# Altium integrated library Infineon_Power_IGBT.IntLib: 226 symbols (part 4 of 8)
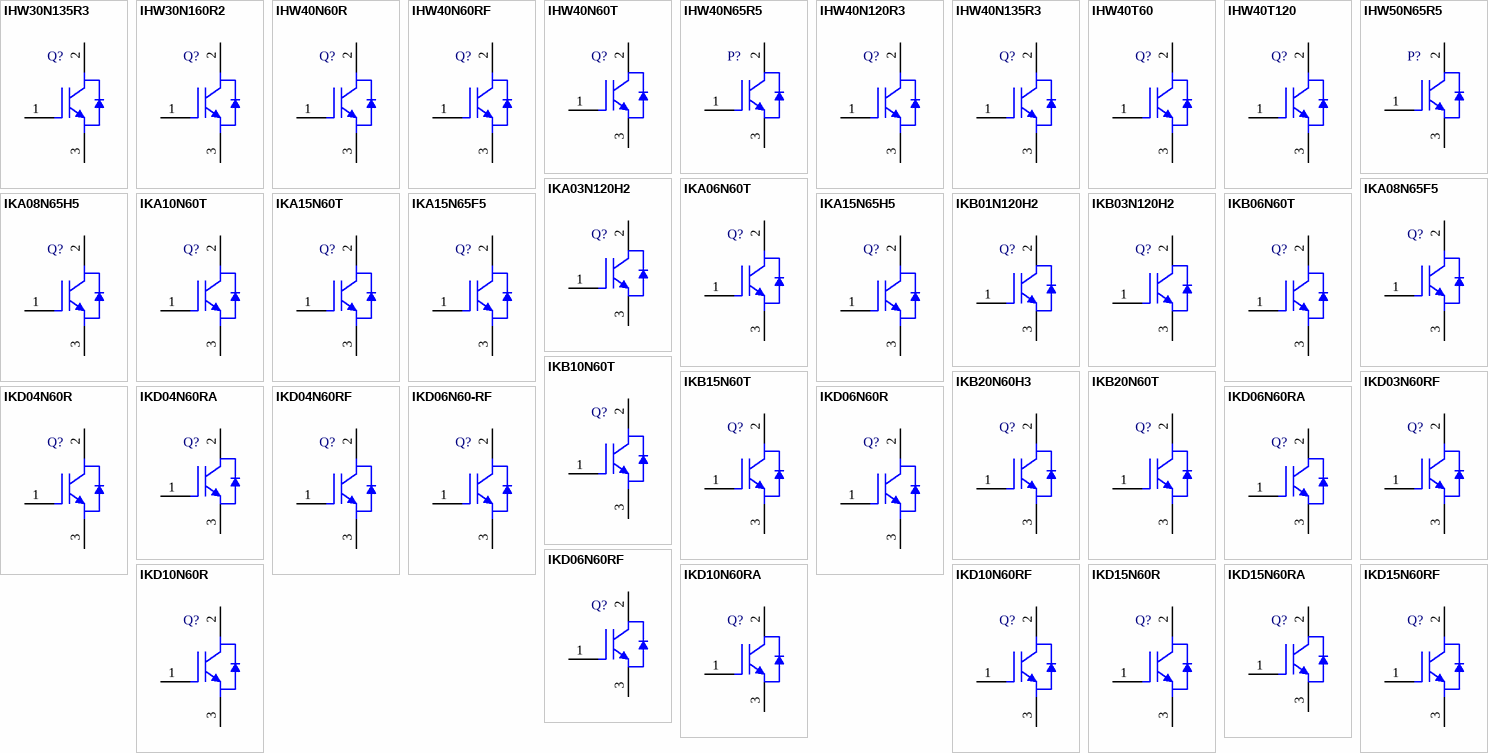
[diagram p8: symbols IHW30N135R3 to IKD15N60RF]

## IKB06N60T
designator Q?
600 V IGBT in TrenchStop and Fieldstop Technology with Soft, Fast Recovery Anti-Parallel EmCon 3 Diode, 12 A IC, -40 to 175 degC, PG-TO263-3-2, Reel, Green; Manufacturer: Infineon; PartNumber: IKB06N60T; Eoff (typ): 0.11 mJ; Eon (typ): 0.09 mJ; Green: TRUE; Group: IGBT with Anti-Parallel Diode; IC(max) @ 100degrees: 6 A; IC(max) @ 25degrees: 12 A; ICpuls (max): 18 A; Irrm (typ): 5.3 A; Ptot (max): 88 W; QGate (typ): 42 nC; Qrr (typ): 190 nC; Switching Frequency: TRENCHSTOP 2-20kHz; td(off) (typ): 130 ns; td(on) (typ): 9 ns; tf (typ): 58 ns; tr (typ): 6 ns; VCE (max): 600 V; VCE(sat) (typ): 1.5 V; VF (typ): 1.6 V; DatasheetVersion: Rev. 2.3; PackageVersion: Jul-09; PackageReference: PG-TO263-3-2; PackageDescription: 3-Pin Plastic (Green) Transistor Single Outline Package, 10 x 9.25 mm Body, 2.54 mm Pitch; Supplier 1: Mouser; Supplier Part Number 1: 726-IKB06N60T; Supplier 2: Newark; Supplier Part Number 2: 13T9437; Supplier 3: Digi-Key; Supplier Part Number 3: IKB06N60TTR-ND; Supplier 4: Digi-Key; Supplier Part Number 4: IKB06N60TCT-ND; Supplier 5: Digi-Key; Supplier Part Number 5: IKB06N60TDKR-ND; Halogen-free: TRUE; IF (max): 12 A; IFpuls (max): 18 A; Packing: Reel; Mounting Technology: Surface Mount; ComponentLink1Description: Manufacturer URL; ComponentLink1URL: http://www.infineon.com/; ComponentLink2Description: Datasheet; ComponentLink2URL: http://www.infineon.com/dgdl/IKB06N60T+Rev2_3G.pdf?folderId=db3a304412b407950112b408e8c90004&fileId=db3a304412b407950112b4286b603df2; ComponentLink3Description: Package Specification; ComponentLink3URL: http://www.infineon.com/dgdl/BTS141TC_DS_10.pdf?folderId=db3a3043163797a6011667aa084c0e01&fileId=db3a3043242ebc9e01242f43f58b003e&location=en.Products.Automotive_ICs.Smart_High-_and_Low-Side_Switches.HITFET___TEMPFET__-_Smart_Low-Side_Switches.DATASHEET.BTS141TC_DS_10.pdf
footprint INF-PG-TO263-3-2_N (DPAK, 3-Leads, Body 10x9.25mm, Pitch 2.54mm, IPC Medium Density)
footprint INF-PG-TO263-3-2_L (DPAK, 3-Leads, Body 10x9.25mm, Pitch 2.54mm, IPC High Density)
footprint INF-PG-TO263-3-2_M (DPAK, 3-Leads, Body 10x9.25mm, Pitch 2.54mm, IPC Low Density)
pins: 1 G, 2 C, 3 E

## IKB10N60T
designator Q?
600 V IGBT in TrenchStop and Fieldstop Technology with Soft, Fast Recovery Anti-Parallel EmCon 3 Diode, 20 A IC, -40 to 175 degC, PG-TO263-3-2, Reel, Green; Manufacturer: Infineon; PartNumber: IKB10N60T; Eoff (typ): 0.27 mJ; Eon (typ): 0.16 mJ; Green: TRUE; Group: IGBT with Anti-Parallel Diode; IC(max) @ 100degrees: 10 A; IC(max) @ 25degrees: 20 A; ICpuls (max): 30 A; Ptot (max): 110 W; QGate (typ): 62 nC; Qrr (typ): 0.38 uC; Switching Frequency: TRENCHSTOP 2-20kHz; td(off) (typ): 215 ns; td(on) (typ): 12 ns; tf (typ): 38 ns; tr (typ): 8 ns; VCE (max): 600 V; VCE(sat) (typ): 1.5 V; VF (typ): 1.6 V; DatasheetVersion: Rev. 2.3; PackageVersion: Jul-09; PackageReference: PG-TO263-3-2; PackageDescription: 3-Pin Plastic (Green) Transistor Single Outline Package, 10 x 9.25 mm Body, 2.54 mm Pitch; Supplier 1: Mouser; Supplier Part Number 1: 726-IKB10N60T; Supplier 2: Newark; Supplier Part Number 2: 13T9438; Supplier 3: Farnell; Supplier Part Number 3: 1832362; Supplier 4: Digi-Key; Supplier Part Number 4: IKB10N60T-ND; Halogen-free: TRUE; IF (max): 20 A; IFpuls (max): 30 A; Irrm (typ): 10 A; Packing: Reel; Mounting Technology: Surface Mount; ComponentLink1Description: Manufacturer URL; ComponentLink1URL: http://www.infineon.com/; ComponentLink2Description: Datasheet; ComponentLink2URL: http://www.infineon.com/dgdl/IKB10N60T+Rev2_3G.pdf?folderId=db3a304412b407950112b408e8c90004&fileId=db3a304412b407950112b428742d3dfe; ComponentLink3Description: Package Specification; ComponentLink3URL: http://www.infineon.com/dgdl/BTS141TC_DS_10.pdf?folderId=db3a3043163797a6011667aa084c0e01&fileId=db3a3043242ebc9e01242f43f58b003e&location=en.Products.Automotive_ICs.Smart_High-_and_Low-Side_Switches.HITFET___TEMPFET__-_Smart_Low-Side_Switches.DATASHEET.BTS141TC_DS_10.pdf
footprint INF-PG-TO263-3-2_N (DPAK, 3-Leads, Body 10x9.25mm, Pitch 2.54mm, IPC Medium Density)
footprint INF-PG-TO263-3-2_L (DPAK, 3-Leads, Body 10x9.25mm, Pitch 2.54mm, IPC High Density)
footprint INF-PG-TO263-3-2_M (DPAK, 3-Leads, Body 10x9.25mm, Pitch 2.54mm, IPC Low Density)
pins: 1 G, 2 C, 3 E

## IKB15N60T
designator Q?
600 V IGBT in TrenchStop and Fieldstop Technology with Soft, Fast Recovery Anti-Parallel EmCon 3 Diode, 30 A IC, -40 to 175 degC, PG-TO263-3-2, Reel, Green; Manufacturer: Infineon; PartNumber: IKB15N60T; Eoff (typ): 0.35 mJ; Eon (typ): 0.22 mJ; Green: TRUE; Group: IGBT with Anti-Parallel Diode; IC(max) @ 100degrees: 15 A; IC(max) @ 25degrees: 30 A; ICpuls (max): 45 A; Irrm (typ): 10.4 A; Ptot (max): 130 W; QGate (typ): 87 nC; Qrr (typ): 0.24 uC; Switching Frequency: TRENCHSTOP 2-20kHz; td(off) (typ): 188 ns; td(on) (typ): 17 ns; tf (typ): 50 ns; tr (typ): 11 ns; VCE (max): 600 V; VCE(sat) (typ): 1.5 V; VF (typ): 1.65 V; DatasheetVersion: Rev. 2.5; PackageVersion: Jul-09; PackageReference: PG-TO263-3-2; PackageDescription: 3-Pin Plastic (Green) Transistor Single Outline Package, 10 x 9.25 mm Body, 2.54 mm Pitch; Supplier 1: Mouser; Supplier Part Number 1: 726-IKB15N60T; Supplier 2: Digi-Key; Supplier Part Number 2: IKB15N60T-ND; Halogen-free: TRUE; IF (max): 30 A; IFpuls (max): 45 A; Packing: Reel; Mounting Technology: Surface Mount; ComponentLink1Description: Manufacturer URL; ComponentLink1URL: http://www.infineon.com/; ComponentLink2Description: Datasheet; ComponentLink2URL: http://www.infineon.com/dgdl/IKB15N60T+Rev2_5G.pdf?folderId=db3a304412b407950112b408e8c90004&fileId=db3a304412b407950112b4287d223e0a; ComponentLink3Description: Package Specification; ComponentLink3URL: http://www.infineon.com/dgdl/BTS141TC_DS_10.pdf?folderId=db3a3043163797a6011667aa084c0e01&fileId=db3a3043242ebc9e01242f43f58b003e&location=en.Products.Automotive_ICs.Smart_High-_and_Low-Side_Switches.HITFET___TEMPFET__-_Smart_Low-Side_Switches.DATASHEET.BTS141TC_DS_10.pdf
footprint INF-PG-TO263-3-2_N (DPAK, 3-Leads, Body 10x9.25mm, Pitch 2.54mm, IPC Medium Density)
footprint INF-PG-TO263-3-2_L (DPAK, 3-Leads, Body 10x9.25mm, Pitch 2.54mm, IPC High Density)
footprint INF-PG-TO263-3-2_M (DPAK, 3-Leads, Body 10x9.25mm, Pitch 2.54mm, IPC Low Density)
pins: 1 G, 2 C, 3 E

## IKB20N60H3
designator Q?
600 V High Speed Switching Series Third Generation, 40 A IC, -40 to 175 degC, PG-TO263-3-2, Reel, Green; Manufacturer: Infineon; PartNumber: IKB20N60H3; Eoff (typ): 0.24 mJ; Eon (typ): 0.45 mJ; Green: TRUE; IC(max) @ 100degrees: 20 A; IC(max) @ 25degrees: 40 A; ICpuls (max): 80 A; Irrm (typ): 11 A; QGate (typ): 120 nC; Qrr (typ): 0.39 uC; Switching Frequency: HighSpeed3 20-100kHz; td(off) (typ): 194 ns; td(on) (typ): 16 ns; tf (typ): 11 ns; tr (typ): 20 ns; VCE (max): 600 V; VCE(sat) (typ): 1.95 V; VF (typ): 1.65 V; DatasheetVersion: Rev. 1.1; PackageVersion: Jul-09; PackageReference: PG-TO263-3-2; PackageDescription: 3-Pin Plastic (Green) Transistor Single Outline Package, 10 x 9.25 mm Body, 2.54 mm Pitch; Supplier 1: Mouser; Supplier Part Number 1: 726-IKB20N60H3; Supplier 2: Digi-Key; Supplier Part Number 2: IKB20N60H3-ND; Halogen-free: TRUE; IF (max): 20 A; IFpuls (max): 80 A; Packing: Reel; Mounting Technology: Surface Mount; ComponentLink1Description: Manufacturer URL; ComponentLink1URL: http://www.infineon.com/; ComponentLink2Description: Datasheet; ComponentLink2URL: http://www.infineon.com/dgdl/IKB20N60H3_Rev1_1G.pdf?folderId=db3a3043156fd5730115f56849b61941&fileId=db3a30432a40a650012a476e38862bd0; ComponentLink3Description: Package Specification; ComponentLink3URL: http://www.infineon.com/dgdl/BTS141TC_DS_10.pdf?folderId=db3a3043163797a6011667aa084c0e01&fileId=db3a3043242ebc9e01242f43f58b003e&location=en.Products.Automotive_ICs.Smart_High-_and_Low-Side_Switches.HITFET___TEMPFET__-_Smart_Low-Side_Switches.DATASHEET.BTS141TC_DS_10.pdf
footprint INF-PG-TO263-3-2_N (DPAK, 3-Leads, Body 10x9.25mm, Pitch 2.54mm, IPC Medium Density)
footprint INF-PG-TO263-3-2_L (DPAK, 3-Leads, Body 10x9.25mm, Pitch 2.54mm, IPC High Density)
footprint INF-PG-TO263-3-2_M (DPAK, 3-Leads, Body 10x9.25mm, Pitch 2.54mm, IPC Low Density)
pins: 1 G, 2 C, 3 E

## IKB20N60T
designator Q?
600 V IGBT in TrenchStop and Fieldstop Technology with Soft, Fast Recovery Anti-Parallel EmCon 3 Diode, 40 A IC, -40 to 175 degC, PG-TO263-3-2, Reel, Green; Manufacturer: Infineon; PartNumber: IKB20N60T; Eoff (typ): 0.46 mJ; Eon (typ): 0.31 mJ; Green: TRUE; Group: IGBT with Anti-Parallel Diode; IC(max) @ 100degrees: 20 A; IC(max) @ 25degrees: 40 A; ICpuls (max): 60 A; Irrm (typ): 13.3 A; Ptot (max): 166 W; QGate (typ): 120 nC; Qrr (typ): 0.31 uC; Switching Frequency: TRENCHSTOP 2-20kHz; td(off) (typ): 199 ns; td(on) (typ): 18 ns; tf (typ): 42 ns; tr (typ): 14 ns; VCE (max): 600 V; VCE(sat) (typ): 1.5 V; VF (typ): 1.65 V; DatasheetVersion: Rev. 2.4; PackageVersion: Jul-09; PackageReference: PG-TO263-3-2; PackageDescription: 3-Pin Plastic (Green) Transistor Single Outline Package, 10 x 9.25 mm Body, 2.54 mm Pitch; Supplier 1: Mouser; Supplier Part Number 1: 726-IKB20N60T; Supplier 2: Farnell; Supplier Part Number 2: 1832364; Supplier 3: Digi-Key; Supplier Part Number 3: IKB20N60T-ND; Halogen-free: TRUE; IF (max): 40 A; IFpuls (max): 60 A; Packing: Reel; Mounting Technology: Surface Mount; ComponentLink1Description: Manufacturer URL; ComponentLink1URL: http://www.infineon.com/; ComponentLink2Description: Datasheet; ComponentLink2URL: http://www.infineon.com/dgdl/IKB20N60T+Rev2_4G.pdf?folderId=db3a304412b407950112b408e8c90004&fileId=db3a304412b407950112b42883273e12; ComponentLink3Description: Package Specification; ComponentLink3URL: http://www.infineon.com/dgdl/BTS141TC_DS_10.pdf?folderId=db3a3043163797a6011667aa084c0e01&fileId=db3a3043242ebc9e01242f43f58b003e&location=en.Products.Automotive_ICs.Smart_High-_and_Low-Side_Switches.HITFET___TEMPFET__-_Smart_Low-Side_Switches.DATASHEET.BTS141TC_DS_10.pdf
footprint INF-PG-TO263-3-2_N (DPAK, 3-Leads, Body 10x9.25mm, Pitch 2.54mm, IPC Medium Density)
footprint INF-PG-TO263-3-2_L (DPAK, 3-Leads, Body 10x9.25mm, Pitch 2.54mm, IPC High Density)
footprint INF-PG-TO263-3-2_M (DPAK, 3-Leads, Body 10x9.25mm, Pitch 2.54mm, IPC Low Density)
pins: 1 G, 2 C, 3 E

## IKD03N60RF
designator Q?
600 V TrenchStop RC-Series for Hard Switching Applications up to 30 KHz, 5 A IC, -40 to 175 degC, PG-TO252-3-21, Reel, Green; Manufacturer: Infineon; PartNumber: IKD03N60RF; Eoff(typ): 0.04 mJ; Eon(typ): 0.05 mJ; Green: TRUE; IC(max)@ 100degrees: 2.5 A; IC(max)@ 25degrees: 5 A; ICpuls(max): 7.5 A; Irrm(typ): 3.8 A; Ptot(max): 53.6 W; QGate (typ): 17.1 nC; Qrr(typ): 0.06 uC; Switching Frequency: RC Drives Fast Series 4 - 30 kHz; td(off) (typ): 128 ns; td(on)(typ): 10 ns; tf(typ): 93 ns; tr(typ): 8 ns; VCE(max): 600 V; VCE(sat)(typ): 2.2 V; VF (typ): 2.1 V; DatasheetVersion: Rev. 2.2; PackageReference: PG-TO252-3-21; PackageDescription: 3-Pin Plastic (Green) Transistor Single Outline Package, Body 6.1 x 6.6 mm, Pitch 2.29 mm; Supplier 1: Mouser; Supplier Part Number 1: 726-IKD03N60RF; Supplier 2: Digi-Key; Supplier Part Number 2: IKD03N60RFTR-ND; Supplier 3: Digi-Key; Supplier Part Number 3: IKD03N60RFCT-ND; Supplier 4: Digi-Key; Supplier Part Number 4: IKD03N60RFDKR-ND; Halogen-free: TRUE; IF (max): 5 A; IFpuls(max): 7.5 A; Packing: Reel; Product Type: IKD03N60RF; Mounting Technology: Surface Mount; ComponentLink1Description: Manufacturer URL; ComponentLink1URL: http://www.infineon.com/; ComponentLink2Description: Datasheet; ComponentLink2URL: http://www.infineon.com/dgdl/IKD03N60RF+Rev+2.2.pdf?folderId=db3a3043156fd5730115f56849b61941&fileId=db3a30433c5c92fb013c5d3978350068; ComponentLink3Description: Package Specification; ComponentLink3URL: http://www.infineon.com/cms/packages/SMD_-_Surface_Mounted_Devices/P-PG-TO252/P-PG-TO252-03-021.html?__locale=en
footprint INF-PG-TO252-3-21_V (DPAK, 3-Leads, Body 6.6x6.1mm, Pitch 2.29mm, Recommended)
pins: 1 G, 2 C, 3 E

## IKD04N60R
designator Q?
600 V TrenchStop RC-Series for Hard Switching Applications, 8 A IC, -40 to 175 degC, PG-TO252-3-21, Reel, Green; Manufacturer: Infineon; PartNumber: IKD04N60R; Eoff(typ): 0.15 mJ; Eon(typ): 0.09 mJ; Green: TRUE; IC(max)@ 100degrees: 4 A; IC(max)@ 25degrees: 8 A; ICpuls(max): 12 A; Irrm(typ): 7.6 A; Ptot(max): 75 W; QGate (typ): 27 nC; Qrr(typ): 0.22 uC; Switching Frequency: RC Drives Series 2-20 KHz; td(off) (typ): 146 ns; td(on)(typ): 14 ns; tf(typ): 171 ns; tr(typ): 8 ns; VCE(max): 600 V; VCE(sat)(typ): 1.65 V; VF (typ): 1.7 V; DatasheetVersion: Rev. 2.2; PackageReference: PG-TO252-3-21; PackageDescription: 3-Pin Plastic (Green) Transistor Single Outline Package, Body 6.1 x 6.6 mm, Pitch 2.29 mm; Supplier 1: Mouser; Supplier Part Number 1: 726-IKD04N60R; Supplier 2: Newark; Supplier Part Number 2: 13T9441; Supplier 3: Farnell; Supplier Part Number 3: 1832339; Supplier 4: Digi-Key; Supplier Part Number 4: IKD04N60RINTR-ND; Supplier 5: Digi-Key; Supplier Part Number 5: IKD04N60RINCT-ND; Supplier 6: Digi-Key; Supplier Part Number 6: IKD04N60RINDKR-ND; Halogen-free: TRUE; IF (max): 8 A; IFpuls(max): 12 A; Packing: Reel; Product Type: IKD04N60R; Mounting Technology: Surface Mount; ComponentLink1Description: Manufacturer URL; ComponentLink1URL: http://www.infineon.com/; ComponentLink2Description: Datasheet; ComponentLink2URL: http://www.infineon.com/dgdl/IKD04N60R_2_2.pdf?folderId=db3a3043156fd5730115f56849b61941&fileId=db3a30433c5c92fb013c5d927b3e01a0&location=en.Products.IGBTs.IGBT_with_Anti-Parallel_Diode.RC-Drive_and_RC-Drive_Fast.DATASHEET.IKD04N60R_2_2.pdf; ComponentLink3Description: Package Specification; ComponentLink3URL: http://www.infineon.com/cms/packages/SMD_-_Surface_Mounted_Devices/P-PG-TO252/P-PG-TO252-03-021.html?__locale=en
footprint INF-PG-TO252-3-21_V (DPAK, 3-Leads, Body 6.6x6.1mm, Pitch 2.29mm, Recommended)
pins: 1 G, 2 C, 3 E

## IKD04N60RA
designator Q?
600 V Trenchstop RC-Series for Hard Switching Applications, PG-TO252-3, Reel, Green; Manufacturer: Infineon; PartNumber: IKD04N60RA; Green: TRUE; IC(max) @ 100 degC: 4 A; IC(max) @ 25 degC: 8 A; Switching Frequency: RC Drives Series 2-20 KHz; VCE (max): 600 V; VCE(sat) (typ): 1.65 V; DatasheetVersion: Rev. 2.1; PackageVersion: Rev. 2.2, 04/2007; PackageReference: PG-TO252-3-1_A; PackageDescription: 3-Pin Plastic (Green) Transistor Single Outline Package, Body 6.565 x 6.1 mm, Pitch 2.28 mm; Supplier 1: Mouser; Supplier Part Number 1: N/A; Halogen-free: TRUE; Packing: Reel; Mounting Technology: Surface Mount; ComponentLink1Description: Manufacturer URL; ComponentLink1URL: http://www.infineon.com/; ComponentLink2Description: Datasheet; ComponentLink2URL: http://www.infineon.com/dgdl/DS_IKD04N60RA_2_1.pdf?folderId=db3a3043156fd5730115f56849b61941&fileId=db3a30433e30e4bf013e3bc8859b69b8; ComponentLink3Description: Package Specification; ComponentLink3URL: http://www.infineon.com/dgdl/IDD03E60Grev2_2.pdf?folderId=db3a304412b407950112b438b4176b74&fileId=db3a304412b407950112b438b49f6b75
footprint INF-PG-TO252-3-1_A_N (DPAK, 3-Leads, Body 6.565x6.1mm, Pitch 2.28mm, IPC Medium Density)
footprint INF-PG-TO252-3-1_A_L (DPAK, 3-Leads, Body 6.565x6.1mm, Pitch 2.28mm, IPC High Density)
footprint INF-PG-TO252-3-1_A_M (DPAK, 3-Leads, Body 6.565x6.1mm, Pitch 2.28mm, IPC Low Density)
pins: 1 G, 2 C, 3 E

## IKD04N60RF
designator Q?
600 V TrenchStop RC-Series for Hard Switching Applications up to 30 KHz, 8 A IC, -40 to 175 degC, PG-TO252-3-21, Reel, Green; Manufacturer: Infineon; PartNumber: IKD04N60RF; Eoff(typ): 0.05 mJ; Eon(typ): 0.06 mJ; Green: TRUE; IC(max)@ 100degrees: 4 A; IC(max)@ 25degrees: 8 A; ICpuls(max): 12 A; Irrm(typ): 4.6 A; Ptot(max): 75 W; QGate (typ): 27 nC; Qrr(typ): 0.09 uC; Switching Frequency: RC Drives Fast Series 4 - 30 kHz; td(off) (typ): 116 ns; td(on)(typ): 12 ns; tf(typ): 37 ns; tr(typ): 7 ns; VCE(max): 600 V; VCE(sat)(typ): 2.2 V; VF (typ): 2.1 V; DatasheetVersion: Rev. 2.2; PackageReference: PG-TO252-3-21; PackageDescription: 3-Pin Plastic (Green) Transistor Single Outline Package, Body 6.1 x 6.6 mm, Pitch 2.29 mm; Supplier 1: Mouser; Supplier Part Number 1: 726-IKD04N60RF; Supplier 2: Digi-Key; Supplier Part Number 2: IKD04N60RFTR-ND; Supplier 3: Digi-Key; Supplier Part Number 3: IKD04N60RFCT-ND; Supplier 4: Digi-Key; Supplier Part Number 4: IKD04N60RFDKR-ND; Halogen-free: TRUE; IF (max): 8 A; IFpuls(max): 12 A; Packing: Reel; Product Type: IKD04N60RF; Mounting Technology: Surface Mount; ComponentLink1Description: Manufacturer URL; ComponentLink1URL: http://www.infineon.com/; ComponentLink2Description: Datasheet; ComponentLink2URL: http://www.infineon.com/dgdl/IKD04N60RF_Rev+2.2.pdf?folderId=db3a3043156fd5730115f56849b61941&fileId=db3a30433c5c92fb013c5d6c806d00dc; ComponentLink3Description: Package Specification; ComponentLink3URL: http://www.infineon.com/cms/packages/SMD_-_Surface_Mounted_Devices/P-PG-TO252/P-PG-TO252-03-021.html?__locale=en
footprint INF-PG-TO252-3-21_V (DPAK, 3-Leads, Body 6.6x6.1mm, Pitch 2.29mm, Recommended)
pins: 1 G, 2 C, 3 E

## IKD06N60-RF
designator Q?
600 V TrenchStop RC-Series for Hard Switching Applications up to 30 KHz, 12 A IC, -40 to 175 degC, PG-TO252-3-21, Reel, Green; Manufacturer: Infineon; PartNumber: IKD06N60-RF; Eoff(typ): 0.09 mJ; Green: TRUE; IC(max)@ 100degrees: 6 A; IC(max)@ 25degrees: 12 A; ICpuls(max): 18 A; Irrm(typ): 7.4 A; Ptot(max): 100 W; QGate (typ): 48 nC; Qrr(typ): 160 nC; Switching Frequency: RC Drives Fast Series 4 - 30 kHz; td(off) (typ): 106 ns; td(on)(typ): 7 ns; tf(typ): 22 ns; tr(typ): 8 ns; VCE(max): 600 V; VCE(sat)(typ): 2.2 V; VF (typ): 2.1 V; DatasheetVersion: Rev. 2.1; PackageReference: PG-TO252-3-21; PackageDescription: 3-Pin Plastic (Green) Transistor Single Outline Package, Body 6.1 x 6.6 mm, Pitch 2.29 mm; Eon(typ): 0.09 mJ; Halogen-free: TRUE; IF (max): 12 A; IFpuls(max): 18 A; Packing: Reel; Product Type: IKD06N60-RF; Mounting Technology: Surface Mount; ComponentLink1Description: Manufacturer URL; ComponentLink1URL: http://www.infineon.com/; ComponentLink2Description: Datasheet; ComponentLink2URL: http://www.infineon.com/dgdl/DS_IKD06N60RF_2_1.pdf?folderId=db3a3043156fd5730115f56849b61941&fileId=db3a304335c2937a0135e782e0fc7a40&location=en.Products.IGBTs.IGBT_with_Anti-Parallel_Diode.RC-Drive_and_RC-Drive_Fast.DATASHEET.DS_IKD06N60RF_2_1.pdf; ComponentLink3Description: Package Specification; ComponentLink3URL: http://www.infineon.com/cms/packages/SMD_-_Surface_Mounted_Devices/P-PG-TO252/P-PG-TO252-03-021.html?__locale=en
footprint INF-PG-TO252-3-21_V (DPAK, 3-Leads, Body 6.6x6.1mm, Pitch 2.29mm, Recommended)
pins: 1 G, 2 C, 3 E

## IKD06N60R
designator Q?
600 V TrenchStop RC-Series for Hard Switching Applications, 12 A IC, -40 to 175 degC, PG-TO252-3-21, Reel, Green; Manufacturer: Infineon; PartNumber: IKD06N60R; Eoff(typ): 0.22 mJ; Eon(typ): 0.11 mJ; Green: TRUE; IC(max)@ 100degrees: 6 A; IC(max)@ 25degrees: 12 A; ICpuls(max): 18 A; Ptot(max): 100 W; QGate (typ): 48 nC; Qrr(typ): 370 nC; Switching Frequency: RC Drives Series 2-20 KHz; td(off) (typ): 127 ns; td(on)(typ): 12 ns; tf(typ): 152 ns; tr(typ): 7 ns; VCE(max): 600 V; VCE(sat)(typ): 1.65 V; VF (typ): 1.7 V; DatasheetVersion: Rev. 2.2; PackageReference: PG-TO252-3-21; PackageDescription: 3-Pin Plastic (Green) Transistor Single Outline Package, Body 6.1 x 6.6 mm, Pitch 2.29 mm; Supplier 1: Mouser; Supplier Part Number 1: 726-IKD06N60R; Supplier 2: Digi-Key; Supplier Part Number 2: IKD06N60RINTR-ND; Supplier 3: Digi-Key; Supplier Part Number 3: IKD06N60RINCT-ND; Supplier 4: Digi-Key; Supplier Part Number 4: IKD06N60RINDKR-ND; Halogen-free: TRUE; IF (max): 12 A; IFpuls(max): 18 A; Irrm(typ): 12 A; Packing: Reel; Product Type: IKD06N60R; Mounting Technology: Surface Mount; ComponentLink1Description: Manufacturer URL; ComponentLink1URL: http://www.infineon.com/; ComponentLink2Description: Datasheet; ComponentLink2URL: http://www.infineon.com/dgdl/IKD06N60R_2_2.pdf?folderId=db3a3043156fd5730115f56849b61941&fileId=db3a30433c5c92fb013c5dd406a402d6&location=en.Products.IGBTs.IGBT_with_Anti-Parallel_Diode.RC-Drive_and_RC-Drive_Fast.DATASHEET.IKD06N60R_2_2.pdf; ComponentLink3Description: Package Specification; ComponentLink3URL: http://www.infineon.com/cms/packages/SMD_-_Surface_Mounted_Devices/P-PG-TO252/P-PG-TO252-03-021.html?__locale=en
footprint INF-PG-TO252-3-21_V (DPAK, 3-Leads, Body 6.6x6.1mm, Pitch 2.29mm, Recommended)
pins: 1 G, 2 C, 3 E

## IKD06N60RA
designator Q?
500 V Trenchstop RC-Series for Hard Switching Applications Qualified to Automotive Standard AECQ101, PG-TO252-3, Reel, Green; Manufacturer: Infineon; PartNumber: IKD06N60RA; Green: TRUE; IC(max) @ 100 degC: 6 A; IC(max) @ 25 degC: 12 A; Switching Frequency: RC Drives Series 2-20 KHz; VCE (max): 500 V; VCE(sat) (typ): 1.65 V; DatasheetVersion: Rev. 2.1; PackageVersion: Rev. 2.2, 04/2007; PackageReference: PG-TO252-3-1_A; PackageDescription: 3-Pin Plastic (Green) Transistor Single Outline Package, Body 6.565 x 6.1 mm, Pitch 2.28 mm; Supplier 1: Mouser; Supplier Part Number 1: 726-IKD06N60RA; Supplier 2: Digi-Key; Supplier Part Number 2: IKD06N60RA-ND; Halogen-free: TRUE; Packing: Reel; Mounting Technology: Surface Mount; ComponentLink1Description: Manufacturer URL; ComponentLink1URL: http://www.infineon.com/; ComponentLink2Description: Datasheet; ComponentLink2URL: http://www.infineon.com/dgdl/IKD06N60RA_Rev2_1G.pdf?folderId=db3a30431c69a49d011c6f86019b00a1&fileId=db3a30432a14dd54012a199c8e6e2b54; ComponentLink3Description: Package Specification; ComponentLink3URL: http://www.infineon.com/dgdl/IDD03E60Grev2_2.pdf?folderId=db3a304412b407950112b438b4176b74&fileId=db3a304412b407950112b438b49f6b75
footprint INF-PG-TO252-3-1_A_N (DPAK, 3-Leads, Body 6.565x6.1mm, Pitch 2.28mm, IPC Medium Density)
footprint INF-PG-TO252-3-1_A_L (DPAK, 3-Leads, Body 6.565x6.1mm, Pitch 2.28mm, IPC High Density)
footprint INF-PG-TO252-3-1_A_M (DPAK, 3-Leads, Body 6.565x6.1mm, Pitch 2.28mm, IPC Low Density)
pins: 1 G, 2 C, 3 E

## IKD06N60RF
designator Q?
Trenchstop RC-Series for Hard Switching Applications Up to 30 kHz, PG-TO252-3, Reel, Green; Manufacturer: Infineon; PartNumber: IKD06N60RF; Green: TRUE; IC(max) @ 100 degC: 6 A; IC(max) @ 25 degC: 12 A; Switching Frequency: RC Drives Fast Series 4 - 30 kHz; VCE (max): 600 V; VCE(sat) (typ): 2.2 V; DatasheetVersion: Rev. 2.1; PackageVersion: Rev. 2.2, 04/2007; PackageReference: PG-TO252-3-1_A; PackageDescription: 3-Pin Plastic (Green) Transistor Single Outline Package, Body 6.565 x 6.1 mm, Pitch 2.28 mm; Supplier 1: Digi-Key; Supplier Part Number 1: IKD06N60RF-TR-ND; Supplier 2: Digi-Key; Supplier Part Number 2: IKD06N60RF-CT-ND; Supplier 3: Digi-Key; Supplier Part Number 3: IKD06N60RF-DKR-ND; Halogen-free: TRUE; Packing: Reel; Mounting Technology: Surface Mount; ComponentLink1Description: Manufacturer URL; ComponentLink1URL: http://www.infineon.com/; ComponentLink2Description: Datasheet; ComponentLink2URL: http://www.infineon.com/dgdl/DS_IKD06N60RF_2_1.pdf?folderId=db3a3043156fd5730115f56849b61941&fileId=db3a304335c2937a0135e782e0fc7a40; ComponentLink3Description: Package Specification; ComponentLink3URL: http://www.infineon.com/dgdl/IDD03E60Grev2_2.pdf?folderId=db3a304412b407950112b438b4176b74&fileId=db3a304412b407950112b438b49f6b75
footprint INF-PG-TO252-3-1_A_N (DPAK, 3-Leads, Body 6.565x6.1mm, Pitch 2.28mm, IPC Medium Density)
footprint INF-PG-TO252-3-1_A_L (DPAK, 3-Leads, Body 6.565x6.1mm, Pitch 2.28mm, IPC High Density)
footprint INF-PG-TO252-3-1_A_M (DPAK, 3-Leads, Body 6.565x6.1mm, Pitch 2.28mm, IPC Low Density)
pins: 1 G, 2 C, 3 E

## IKD10N60R
designator Q?
600 V TrenchStop RC-Series for Hard Switching Applications, 20 A IC, -40 to 175 degC, PG-TO252-3-21, Reel, Green; Manufacturer: Infineon; PartNumber: IKD10N60R; Eoff(typ): 0.38 mJ; Eon(typ): 0.21 mJ; Green: TRUE; IC(max)@ 100degrees: 10 A; IC(max)@ 25degrees: 20 A; ICpuls(max): 30 A; Irrm(typ): 20.3 A; Ptot(max): 150 W; QGate (typ): 64 nC; Qrr(typ): 560 nC; Switching Frequency: RC Drives Series 2-20 KHz; td(off) (typ): 192 ns; td(on)(typ): 14 ns; tf(typ): 139 ns; tr(typ): 10 ns; VCE(max): 600 V; VCE(sat)(typ): 1.65 V; VF (typ): 1.7 V; DatasheetVersion: Rev. 2.2; PackageReference: PG-TO252-3-21; PackageDescription: 3-Pin Plastic (Green) Transistor Single Outline Package, Body 6.1 x 6.6 mm, Pitch 2.29 mm; Supplier 1: Mouser; Supplier Part Number 1: 726-IKD10N60R; Supplier 2: Digi-Key; Supplier Part Number 2: IKD10N60RINTR-ND; Supplier 3: Digi-Key; Supplier Part Number 3: IKD10N60RINCT-ND; Supplier 4: Digi-Key; Supplier Part Number 4: IKD10N60RINDKR-ND; Halogen-free: TRUE; IF (max): 20 A; IFpuls(max): 30 A; Packing: Reel; Product Type: IKD10N60R; Mounting Technology: Surface Mount; ComponentLink1Description: Manufacturer URL; ComponentLink1URL: http://www.infineon.com/; ComponentLink2Description: Datasheet; ComponentLink2URL: http://www.infineon.com/dgdl/IKD10N60R_2_2.pdf?folderId=db3a3043156fd5730115f56849b61941&fileId=db3a30433c5c92fb013c5df8088c02fd&location=en.Products.IGBTs.IGBT_with_Anti-Parallel_Diode.RC-Drive_and_RC-Drive_Fast.DATASHEET.IKD10N60R_2_2.pdf; ComponentLink3Description: Package Specification; ComponentLink3URL: http://www.infineon.com/cms/packages/SMD_-_Surface_Mounted_Devices/P-PG-TO252/P-PG-TO252-03-021.html?__locale=en
footprint INF-PG-TO252-3-21_V (DPAK, 3-Leads, Body 6.6x6.1mm, Pitch 2.29mm, Recommended)
pins: 1 G, 2 C, 3 E

## IKD10N60RA
designator Q?
600 V Trenchstop RC-Series for Hard Switching Applications, PG-TO252-3, Reel, Green; Manufacturer: Infineon; PartNumber: IKD10N60RA; Green: TRUE; IC(max) @ 100 degC: 10 A; IC(max) @ 25 degC: 20 A; Switching Frequency: RC Drives Series 2-20 KHz; VCE (max): 600 V; VCE(sat) (typ): 1.65 V; DatasheetVersion: Rev. 2.1; PackageVersion: Rev. 2.2, 04/2007; PackageReference: PG-TO252-3-1_A; PackageDescription: 3-Pin Plastic (Green) Transistor Single Outline Package, Body 6.565 x 6.1 mm, Pitch 2.28 mm; Supplier 1: Mouser; Supplier Part Number 1: 726-IKD10N60RA; Supplier 2: Digi-Key; Supplier Part Number 2: IKD10N60RA-ND; Halogen-free: TRUE; Packing: Reel; Mounting Technology: Surface Mount; ComponentLink1Description: Manufacturer URL; ComponentLink1URL: http://www.infineon.com/; ComponentLink2Description: Datasheet; ComponentLink2URL: http://www.infineon.com/dgdl/DS_IKD10N60RA_2_1.pdf?folderId=db3a3043156fd5730115f56849b61941&fileId=db3a30433e30e4bf013e3c07b3756a5c; ComponentLink3Description: Package Specification; ComponentLink3URL: http://www.infineon.com/dgdl/IDD03E60Grev2_2.pdf?folderId=db3a304412b407950112b438b4176b74&fileId=db3a304412b407950112b438b49f6b75
footprint INF-PG-TO252-3-1_A_N (DPAK, 3-Leads, Body 6.565x6.1mm, Pitch 2.28mm, IPC Medium Density)
footprint INF-PG-TO252-3-1_A_L (DPAK, 3-Leads, Body 6.565x6.1mm, Pitch 2.28mm, IPC High Density)
footprint INF-PG-TO252-3-1_A_M (DPAK, 3-Leads, Body 6.565x6.1mm, Pitch 2.28mm, IPC Low Density)
pins: 1 G, 2 C, 3 E

## IKD10N60RF
designator Q?
600 V TrenchStop RC-Series for Hard Switching Applications up to 30 KHz, 20 A IC, -40 to 175 degC, PG-TO252-3-21, Reel, Green; Manufacturer: Infineon; PartNumber: IKD10N60RF; Eoff(typ): 0.16 mJ; Eon(typ): 0.19 mJ; Green: TRUE; IC(max)@ 100degrees: 10 A; IC(max)@ 25degrees: 20 A; ICpuls(max): 30 A; Irrm(typ): 9.1 A; Ptot(max): 150 W; QGate (typ): 64 nC; Qrr(typ): 270 nC; Switching Frequency: RC Drives Fast Series 4 - 30 kHz; td(off) (typ): 168 ns; td(on)(typ): 12 ns; tf(typ): 18 ns; tr(typ): 15 ns; VCE(max): 600 V; VCE(sat)(typ): 2.2 V; VF (typ): 2.1 V; DatasheetVersion: Rev. 2.1; PackageReference: PG-TO252-3-21; PackageDescription: 3-Pin Plastic (Green) Transistor Single Outline Package, Body 6.1 x 6.6 mm, Pitch 2.29 mm; Supplier 1: Digi-Key; Supplier Part Number 1: IKD10N60RF-TR-ND; Supplier 2: Digi-Key; Supplier Part Number 2: IKD10N60RF-CT-ND; Supplier 3: Digi-Key; Supplier Part Number 3: IKD10N60RF-DKR-ND; Halogen-free: TRUE; IF (max): 20 A; IFpuls(max): 30 A; Packing: Reel; Product Type: IKD10N60RF; Mounting Technology: Surface Mount; ComponentLink1Description: Manufacturer URL; ComponentLink1URL: http://www.infineon.com/; ComponentLink2Description: Datasheet; ComponentLink2URL: http://www.infineon.com/dgdl/DS_IKD10N60RF_2_1.pdf?folderId=db3a3043156fd5730115f56849b61941&fileId=db3a304335c2937a0135e7ea2d2d7a72&location=en.Products.IGBTs.IGBT_with_Anti-Parallel_Diode.RC-Drive_and_RC-Drive_Fast.DATASHEET.DS_IKD10N60RF_2_1.pdf; ComponentLink3Description: Package Specification; ComponentLink3URL: http://www.infineon.com/cms/packages/SMD_-_Surface_Mounted_Devices/P-PG-TO252/P-PG-TO252-03-021.html?__locale=en
footprint INF-PG-TO252-3-21_V (DPAK, 3-Leads, Body 6.6x6.1mm, Pitch 2.29mm, Recommended)
pins: 1 G, 2 C, 3 E

## IKD15N60R
designator Q?
600 V TrenchStop RC-Series for Hard Switching Applications, 30 A IC, -40 to 175 degC, PG-TO252-3-21, Reel, Green; Manufacturer: Infineon; PartNumber: IKD15N60R; Eoff(typ): 0.53 mJ; Eon(typ): 0.37 mJ; Green: TRUE; IC(max)@ 100degrees: 15 A; IC(max)@ 25degrees: 30 A; ICpuls(max): 45 A; Irrm(typ): 20.5 A; Ptot(max): 250 W; QGate (typ): 90 nC; Qrr(typ): 0.76 uC; Switching Frequency: RC Drives Series 2-20 KHz; td(off) (typ): 183 ns; td(on)(typ): 16 ns; tf(typ): 136 ns; tr(typ): 10 ns; VCE(max): 600 V; VCE(sat)(typ): 1.65 V; VF (typ): 1.7 V; DatasheetVersion: Rev. 2.2; PackageReference: PG-TO252-3-21; PackageDescription: 3-Pin Plastic (Green) Transistor Single Outline Package, Body 6.1 x 6.6 mm, Pitch 2.29 mm; Supplier 1: Mouser; Supplier Part Number 1: 726-IKD15N60R; Supplier 2: Digi-Key; Supplier Part Number 2: IKD15N60R-ND; Halogen-free: TRUE; IF (max): 30 A; IFpuls(max): 45 A; Packing: Reel; Product Type: IKD15N60R; Mounting Technology: Surface Mount; ComponentLink1Description: Manufacturer URL; ComponentLink1URL: http://www.infineon.com/; ComponentLink2Description: Datasheet; ComponentLink2URL: http://www.infineon.com/dgdl/IKD15N60R_2_2.pdf?folderId=db3a3043156fd5730115f56849b61941&fileId=db3a30433c5c92fb013c5e03026003b2&location=en.Products.IGBTs.IGBT_with_Anti-Parallel_Diode.RC-Drive_and_RC-Drive_Fast.DATASHEET.IKD15N60R_2_2.pdf; ComponentLink3Description: Package Specification; ComponentLink3URL: http://www.infineon.com/cms/packages/SMD_-_Surface_Mounted_Devices/P-PG-TO252/P-PG-TO252-03-021.html?__locale=en
footprint INF-PG-TO252-3-21_V (DPAK, 3-Leads, Body 6.6x6.1mm, Pitch 2.29mm, Recommended)
pins: 1 G, 2 C, 3 E

## IKD15N60RA
designator Q?
600 V Trenchstop RC-Series for Hard Switching Applications, PG-TO252-3, Reel, Green; Manufacturer: Infineon; PartNumber: IKD15N60RA; Green: TRUE; IC(max) @ 100 degC: 15 A; IC(max) @ 25 degC: 30 A; Switching Frequency: RC Drives Series 2-20 KHz; VCE (max): 600 V; VCE(sat) (typ): 1.65 V; DatasheetVersion: Rev. 2.1; PackageVersion: Rev. 2.2, 04/2007; PackageReference: PG-TO252-3-1_A; PackageDescription: 3-Pin Plastic (Green) Transistor Single Outline Package, Body 6.565 x 6.1 mm, Pitch 2.28 mm; Supplier 1: Mouser; Supplier Part Number 1: 726-IKD15N60RA; Supplier 2: Digi-Key; Supplier Part Number 2: IKD15N60RA-ND; Halogen-free: TRUE; Packing: Reel; Mounting Technology: Surface Mount; ComponentLink1Description: Manufacturer URL; ComponentLink1URL: http://www.infineon.com/; ComponentLink2Description: Datasheet; ComponentLink2URL: http://www.infineon.com/dgdl/DS_IKD15N60RA_2_1.pdf?folderId=db3a3043156fd5730115f56849b61941&fileId=db3a30433e30e4bf013e3c3df1416bbc; ComponentLink3Description: Package Specification; ComponentLink3URL: http://www.infineon.com/dgdl/IDD03E60Grev2_2.pdf?folderId=db3a304412b407950112b438b4176b74&fileId=db3a304412b407950112b438b49f6b75
footprint INF-PG-TO252-3-1_A_N (DPAK, 3-Leads, Body 6.565x6.1mm, Pitch 2.28mm, IPC Medium Density)
footprint INF-PG-TO252-3-1_A_L (DPAK, 3-Leads, Body 6.565x6.1mm, Pitch 2.28mm, IPC High Density)
footprint INF-PG-TO252-3-1_A_M (DPAK, 3-Leads, Body 6.565x6.1mm, Pitch 2.28mm, IPC Low Density)
pins: 1 G, 2 C, 3 E

## IKD15N60RF
designator Q?
600 V TrenchStop RC-Series for Hard Switching Applications up to 30 KHz, 30 A IC, -40 to 175 degC, PG-TO252-3-21, Reel, Green; Manufacturer: Infineon; PartNumber: IKD15N60RF; Eoff(typ): 0.25 mJ; Eon(typ): 0.27 mJ; Green: TRUE; IC(max)@ 100degrees: 15 A; IC(max)@ 25degrees: 30 A; ICpuls(max): 45 A; Irrm(typ): 13.2 A; Ptot(max): 250 W; QGate (typ): 90 nC; Qrr(typ): 420 nC; Switching Frequency: RC Drives Fast Series 4 - 30 kHz; td(off) (typ): 160 ns; td(on)(typ): 13 ns; tf(typ): 17 ns; tr(typ): 15 ns; VCE(max): 600 V; VCE(sat)(typ): 2.2 V; VF (typ): 2.1 V; DatasheetVersion: Rev. 2.1; PackageReference: PG-TO252-3-21; PackageDescription: 3-Pin Plastic (Green) Transistor Single Outline Package, Body 6.1 x 6.6 mm, Pitch 2.29 mm; Supplier 1: Digi-Key; Supplier Part Number 1: IKD15N60RF-TR-ND; Supplier 2: Digi-Key; Supplier Part Number 2: IKD15N60RF-CT-ND; Supplier 3: Digi-Key; Supplier Part Number 3: IKD15N60RF-DKR-ND; Halogen-free: TRUE; IF (max): 30 A; IFpuls(max): 45 A; Packing: Reel; Product Type: IKD15N60RF; Mounting Technology: Surface Mount; ComponentLink1Description: Manufacturer URL; ComponentLink1URL: http://www.infineon.com/; ComponentLink2Description: Datasheet; ComponentLink2URL: http://www.infineon.com/dgdl/DS_IKD15N60RF_2_1.pdf?folderId=db3a3043156fd5730115f56849b61941&fileId=db3a304335c2937a0135e75d857b7a1a&location=en.Products.IGBTs.IGBT_with_Anti-Parallel_Diode.RC-Drive_and_RC-Drive_Fast.DATASHEET.DS_IKD15N60RF_2_1.pdf; ComponentLink3Description: Package Specification; ComponentLink3URL: http://www.infineon.com/cms/packages/SMD_-_Surface_Mounted_Devices/P-PG-TO252/P-PG-TO252-03-021.html?__locale=en
footprint INF-PG-TO252-3-21_V (DPAK, 3-Leads, Body 6.6x6.1mm, Pitch 2.29mm, Recommended)
pins: 1 G, 2 C, 3 E

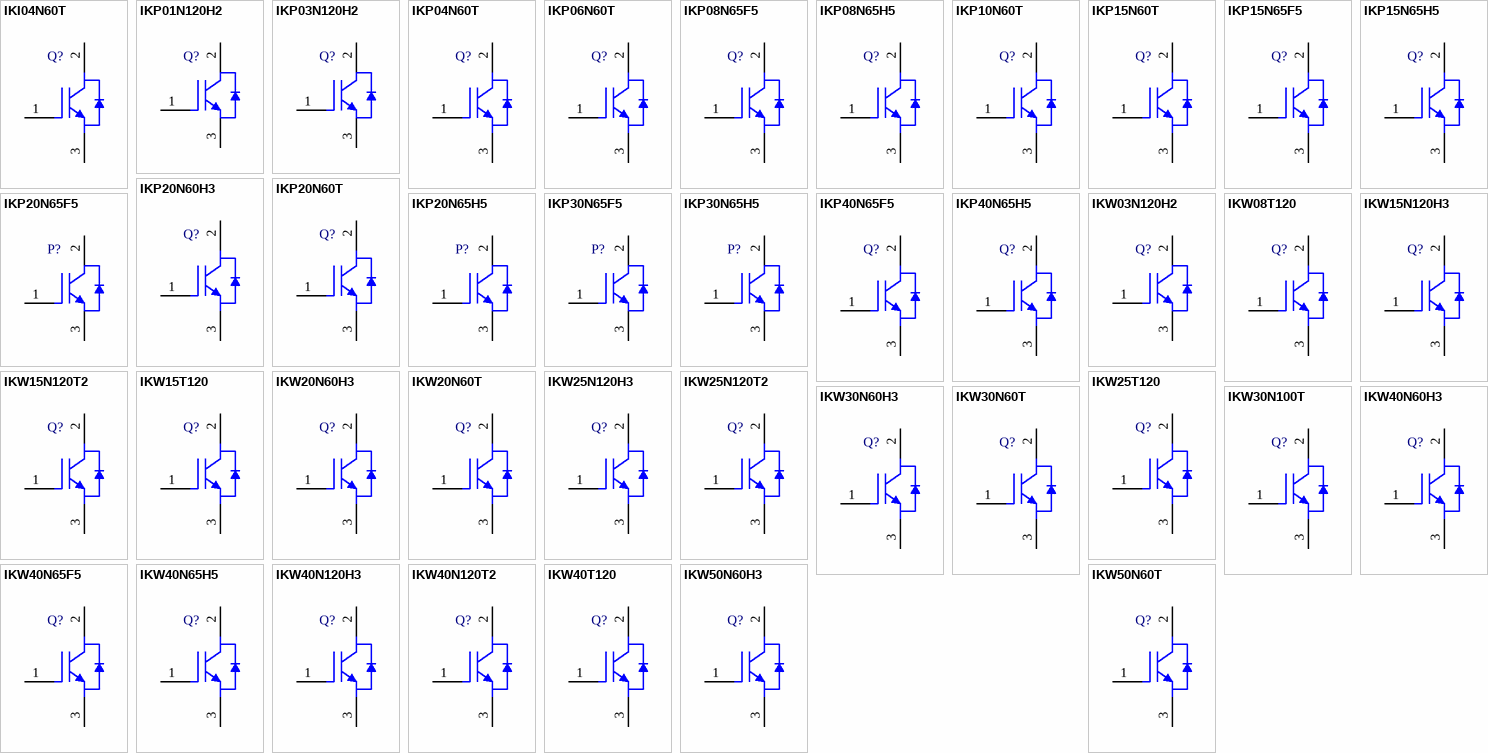
[diagram p3: symbols IKI04N60T to IKW50N60T]

## IKI04N60T
designator Q?
600 V IGBT in TrenchStop and Fieldstop Technology with Soft, Fast Recovery Anti-Parallel EmCon HE Diode, 8 A IC, -40 to 175 degC, PG-TO262-3-1, Tube, Green; Manufacturer: Infineon; PartNumber: IKI04N60T; Eoff (typ): 0.084 mJ; Eon (typ): 0.061 mJ; Green: TRUE; Group: IGBT with Anti-Parallel Diode; IC(max) @ 100degrees: 4 A; IC(max) @ 25degrees: 8 A; ICpuls (max): 12 A; Irrm (typ): 5.3 A; Ptot (max): 42 W; QGate (typ): 27 nC; Qrr (typ): 79 nC; Switching Frequency: TRENCHSTOP 2-20kHz; td(off) (typ): 164 ns; td(on) (typ): 14 ns; tf (typ): 43 ns; tr (typ): 7 ns; VCE (max): 600 V; VCE(sat) (typ): 1.5 V; VF (typ): 1.65 V; DatasheetVersion: Rev. 2.5; PackageReference: PG-TO262-3-1; PackageDescription: 3-Pin Plastic (Green) Transistor Single Outline Package, 10 x 9.25 mm Body, 2.54 mm Pitch; Supplier 1: Mouser; Supplier Part Number 1: 726-IK726-I04N60T; Supplier 2: Digi-Key; Supplier Part Number 2: IKI04N60T-ND; Halogen-free: TRUE; IF (max): 8 A; IFpuls (max): 12 A; Packing: Tube; Mounting Technology: Through Hole; ComponentLink1Description: Manufacturer URL; ComponentLink1URL: http://www.infineon.com/; ComponentLink2Description: Datasheet; ComponentLink2URL: http://www.infineon.com/dgdl/IKP_I04N60T+Rev2_5G.pdf?folderId=db3a3043156fd5730115f56849b61941&fileId=db3a304320896aa20120adabef1e67b2; ComponentLink3Description: Package Specification; ComponentLink3URL: http://www.infineon.com/cms/packages/Leaded_and_through-hole/P-PG-TO262/P-PG-TO262-3-1.html?__locale=en
footprint INF-PG-TO262-3-1 (FM, 3-Leads, Body 10x4.4mm, Pitch 2.54mm)
pins: 1 G, 2 C, 3 E

## IKP01N120H2
designator Q?
High Speed 2-Technology IGBT with Soft, Fast Recovery Anti-Parallel EmCon HE Diode, PG-TO-220-3-1, Tube, Green; Manufacturer: Infineon; PartNumber: IKP01N120H2; Green: TRUE; IC(max) @ 100 degC: 1.3 A; IC(max) @ 25 degC: 3.2 A; Switching Frequency: HighSpeed2 30-100 kHz; VCE (max): 1,200 V; VCE(sat) (typ): 2.2 V; DatasheetVersion: Rev. 2.4; PackageVersion: Rev. 05, 08/2007; PackageReference: PG-TO220-3-1; PackageDescription: 3-Pin Plastic (Green) Transistor Single Outline Package, Body 10.03 x 4.435 mm, Pitch 2.54 mm; Supplier 1: Mouser; Supplier Part Number 1: 726-IKP01N120H2; Supplier 2: Farnell; Supplier Part Number 2: 1471735; Supplier 3: Digi-Key; Supplier Part Number 3: IKP01N120H2-ND; Halogen-free: TRUE; Packing: Tube; Mounting Technology: Through Hole; ComponentLink1Description: Manufacturer URL; ComponentLink1URL: http://www.infineon.com/; ComponentLink2Description: Datasheet; ComponentLink2URL: http://www.infineon.com/dgdl/IKP01N120H2_Rev2_4G%5B1%5D.pdf?folderId=db3a3043156fd5730115f56849b61941&fileId=db3a304323b87bc20123bd8d10023674; ComponentLink3Description: Package Specification; ComponentLink3URL: http://www.infineon.com/dgdl/SKP02N60_Rev2_2G%5B1%5D.pdf?folderId=db3a3043156fd5730115f56849b61941&fileId=db3a304323b87bc20123bd282ebf35d6
footprint INF-PG-TO-220-3-1 (FM, 3-Leads, Body 10.03x4.435mm, Pitch 2.54mm)
pins: 1 G, 2 C, 3 E

## IKP03N120H2
designator Q?
High Speed 2-Technology IGBT with Soft, Fast Recovery Anti-Parallel EmCon HE Diode, PG-TO220-3-1, Tube, Green; Manufacturer: Infineon; PartNumber: IKP03N120H2; Green: TRUE; IC(max) @ 100 degC: 3.9 A; IC(max) @ 25 degC: 9.6 A; Switching Frequency: HighSpeed2 30-100 kHz; VCE (max): 1,200 V; VCE(sat) (typ): 2.2 V; DatasheetVersion: Rev. 2.5; PackageVersion: Jul-12; PackageReference: PG-TO220-3-1; PackageDescription: 3-Pin Plastic (Green) Transistor Single Outline Package, 10 x 9.25 mm Body, 2.54 mm Pitch; Supplier 1: Mouser; Supplier Part Number 1: 726-IKP03N120H2; Supplier 2: Digi-Key; Supplier Part Number 2: IKP03N120H2-ND; Halogen-free: TRUE; Packing: Tube; Mounting Technology: Through Hole; ComponentLink1Description: Manufacturer URL; ComponentLink1URL: http://www.infineon.com/; ComponentLink2Description: Datasheet; ComponentLink2URL: http://www.infineon.com/dgdl/IKP_W03N120H2_Rev2_5G%5B1%5D.pdf?folderId=db3a3043156fd5730115f56849b61941&fileId=db3a304323b87bc20123bd9b35ae368c; ComponentLink3Description: Package Specification; ComponentLink3URL: http://www.infineon.com/dgdl/BTS117_DS_14.pdf?folderId=db3a30431400ef68011421b54e2e0564&fileId=db3a30433a747525013abff8302d549c&location=en.Products.Automotive_ICs.Smart_High-_and_Low-Side_Switches.HITFET___TEMPFET__-_Smart_Low-Side_Switches.DATASHEET.BTS117_DS_14.pdf
footprint INF-PG-TO220-3-1 (FM, 3-Leads, Body 10x4.4mm, Pitch 2.54mm)
pins: 1 G, 2 C, 3 E

## IKP04N60T
designator Q?
600 V IGBT in TrenchStop and Fieldstop Technology with Soft, Fast Recovery Anti-Parallel EmCon HE Diode, 8 A IC, -40 to 175 degC, PG-TO220-3-1, Tube, Green; Manufacturer: Infineon; PartNumber: IKP04N60T; Eoff (typ): 0.084 mJ; Eon (typ): 0.061 mJ; Green: TRUE; Group: IGBT with Anti-Parallel Diode; IC(max) @ 100degrees: 4 A; IC(max) @ 25degrees: 8 A; ICpuls (max): 12 A; IF (max): 8 mA; Irrm (typ): 5.3 A; Ptot (max): 42 W; QGate (typ): 27 nC; Qrr (typ): 79 nC; Switching Frequency: TRENCHSTOP 2-20kHz; td(off) (typ): 164 ns; td(on) (typ): 14 ns; tf (typ): 43 ns; tr (typ): 7 ns; VCE (max): 600 V; VCE(sat) (typ): 1.5 V; VF (typ): 1.65 V; DatasheetVersion: Rev. 2.5; PackageVersion: Jul-12; PackageReference: PG-TO220-3-1; PackageDescription: 3-Pin Plastic (Green) Transistor Single Outline Package, 10 x 9.25 mm Body, 2.54 mm Pitch; Supplier 1: Mouser; Supplier Part Number 1: 726-IKP04N60T; Supplier 2: Digi-Key; Supplier Part Number 2: IKP04N60T-ND; Halogen-free: TRUE; IFpuls (max): 12 A; Packing: Tube; Mounting Technology: Through Hole; ComponentLink1Description: Manufacturer URL; ComponentLink1URL: http://www.infineon.com/; ComponentLink2Description: Datasheet; ComponentLink2URL: http://www.infineon.com/dgdl/IKP_I04N60T+Rev2_5G.pdf?folderId=db3a3043156fd5730115f56849b61941&fileId=db3a304320896aa20120adabef1e67b2; ComponentLink3Description: Package Specification; ComponentLink3URL: http://www.infineon.com/dgdl/BTS117_DS_14.pdf?folderId=db3a30431400ef68011421b54e2e0564&fileId=db3a30433a747525013abff8302d549c&location=en.Products.Automotive_ICs.Smart_High-_and_Low-Side_Switches.HITFET___TEMPFET__-_Smart_Low-Side_Switches.DATASHEET.BTS117_DS_14.pdf
footprint INF-PG-TO220-3-1 (FM, 3-Leads, Body 10x4.4mm, Pitch 2.54mm)
pins: 1 G, 2 C, 3 E

## IKP06N60T
designator Q?
600 V IGBT in TrenchStop and Fieldstop Technology with Soft, Fast Recovery Anti-Parallel EmCon HE Diode, 12 A IC, -40 to 175 degC, PG-TO220-3-1, Tube, Green; Manufacturer: Infineon; PartNumber: IKP06N60T; Eoff (typ): 0.11 mJ; Eon (typ): 0.09 mJ; Green: TRUE; Group: IGBT with Anti-Parallel Diode; IC(max) @ 100degrees: 6 A; IC(max) @ 25degrees: 12 A; ICpuls (max): 18 A; Irrm (typ): 5.3 A; Ptot (max): 88 W; QGate (typ): 42 nC; Qrr (typ): 190 nC; Switching Frequency: TRENCHSTOP 2-20kHz; td(off) (typ): 130 ns; td(on) (typ): 9 ns; tf (typ): 58 ns; tr (typ): 6 ns; VCE (max): 600 V; VCE(sat) (typ): 1.5 V; VF (typ): 1.6 V; DatasheetVersion: Rev. 2.3; PackageVersion: Jul-12; PackageReference: PG-TO220-3-1; PackageDescription: 3-Pin Plastic (Green) Transistor Single Outline Package, 10 x 9.25 mm Body, 2.54 mm Pitch; Supplier 1: Mouser; Supplier Part Number 1: 726-IKP06N60T; Supplier 2: Digi-Key; Supplier Part Number 2: IKP06N60T-ND; Halogen-free: TRUE; IF (max): 12 A; IFpuls (max): 18 A; Packing: Tube; Mounting Technology: Through Hole; ComponentLink1Description: Manufacturer URL; ComponentLink1URL: http://www.infineon.com/; ComponentLink2Description: Datasheet; ComponentLink2URL: http://www.infineon.com/dgdl/IKP06N60T+Rev2_3G%5B1%5D.pdf?folderId=db3a3043156fd5730115f56849b61941&fileId=db3a304323b87bc20123bcc72f95356d; ComponentLink3Description: Package Specification; ComponentLink3URL: http://www.infineon.com/dgdl/BTS117_DS_14.pdf?folderId=db3a30431400ef68011421b54e2e0564&fileId=db3a30433a747525013abff8302d549c&location=en.Products.Automotive_ICs.Smart_High-_and_Low-Side_Switches.HITFET___TEMPFET__-_Smart_Low-Side_Switches.DATASHEET.BTS117_DS_14.pdf
footprint INF-PG-TO220-3-1 (FM, 3-Leads, Body 10x4.4mm, Pitch 2.54mm)
pins: 1 G, 2 C, 3 E

## IKP08N65F5
designator Q?
650 V DuoPack IGBT and Diode High Speed Switching Series Fifth Generation, 18 A IC, PG-TO220-3-123, Tube, Green; Manufacturer: Infineon; PartNumber: IKP08N65F5; Green: TRUE; Group: IGBT with Anti-Parallel Diode; IC(max)@ 100degrees: 11 A; IC(max)@ 25degrees: 18 A; ICpuls(max): 24 A; Irrm (typ): 6.6 A; Ptot(max): 70 W; Switching Frequency: TRENCHSTOP5 10-120 kHz; VCE(max): 650 V; VCE(sat)(typ): 1.6 V; DatasheetVersion: Rev. 1.1; PackageReference: PG-TO220-3-123; PackageDescription: 3-Pin Plastic (Green) Transistor Single Outline Package, Body 15.65 x 10 mm, Pitch 2.54 mm; Supplier 1: Newark; Supplier Part Number 1: 33X0407; Supplier 2: Farnell; Supplier Part Number 2: 2363285; Halogen-free: TRUE; Packing: Tube; Mounting Technology: Through Hole; ComponentLink1Description: Manufacturer URL; ComponentLink1URL: http://www.infineon.com/; ComponentLink2Description: Datasheet; ComponentLink2URL: http://www.infineon.com/dgdl/DS_IKP08N65F5_1_1.pdf?folderId=db3a3043156fd5730115f56849b61941&fileId=db3a30433af5291e013af9bac1de5da9&location=en.Products.IGBTs.IGBT_with_Anti-Parallel_Diode.TRENCHSTOP_5.DATASHEET.DS_IKP08N65F5_1_1.pdf; ComponentLink3Description: Package Specification; ComponentLink3URL: http://www.infineon.com/cms/packages/Leaded_and_through-hole/P-PG-TO220/P-PG-TO220-3-123.html?__locale=en
footprint INF-PG-TO220-3-123_V (FM, 3-Leads, Body 10x9.25mm, Pitch 2.54mm, Recommended)
pins: 1 G, 2 C, 3 E

## IKP08N65H5
designator Q?
650 V DuoPack IGBT and Diode High Speed Switching Series Fifth Generation, 18 A IC, PG-TO220-3-123, Tube, Green; Manufacturer: Infineon; PartNumber: IKP08N65H5; Green: TRUE; Group: IGBT with Anti-Parallel Diode; IC(max)@ 100degrees: 11 A; IC(max)@ 25degrees: 18 A; ICpuls(max): 24 A; Irrm (typ): 6.8 A; Ptot(max): 70 W; Switching Frequency: TRENCHSTOP5 10-120 kHz; VCE(max): 650 V; VCE(sat)(typ): 1.65 V; DatasheetVersion: Rev. 1.1; PackageReference: PG-TO220-3-123; PackageDescription: 3-Pin Plastic (Green) Transistor Single Outline Package, Body 15.65 x 10 mm, Pitch 2.54 mm; Supplier 1: Newark; Supplier Part Number 1: 33X0408; Supplier 2: Farnell; Supplier Part Number 2: 2363286; Halogen-free: TRUE; Packing: Tube; Mounting Technology: Through Hole; ComponentLink1Description: Manufacturer URL; ComponentLink1URL: http://www.infineon.com/; ComponentLink2Description: Datasheet; ComponentLink2URL: http://www.infineon.com/dgdl/DS_IKP08N65H5_1_1.pdf?folderId=db3a3043156fd5730115f56849b61941&fileId=db3a30433af5291e013af9d731ee5df3&location=en.Products.IGBTs.IGBT_with_Anti-Parallel_Diode.TRENCHSTOP_5.DATASHEET.DS_IKP08N65H5_1_1.pdf; ComponentLink3Description: Package Specification; ComponentLink3URL: http://www.infineon.com/cms/packages/Leaded_and_through-hole/P-PG-TO220/P-PG-TO220-3-123.html?__locale=en
footprint INF-PG-TO220-3-123_V (FM, 3-Leads, Body 10x9.25mm, Pitch 2.54mm, Recommended)
pins: 1 G, 2 C, 3 E

## IKP10N60T
designator Q?
600 V IGBT in TrenchStop and Fieldstop Technology with Soft, Fast Recovery Anti-Parallel EmCon HE Diode, 20 A IC, -40 to 175 degC, PG-TO220-3-1, Tube, Green; Manufacturer: Infineon; PartNumber: IKP10N60T; Eoff (typ): 0.27 mJ; Eon (typ): 0.16 mJ; Green: TRUE; Group: IGBT with Anti-Parallel Diode; IC(max) @ 100degrees: 10 A; IC(max) @ 25degrees: 20 A; ICpuls (max): 30 A; Ptot (max): 110 W; QGate (typ): 62 nC; Qrr (typ): 0.38 uC; Switching Frequency: TRENCHSTOP 2-20kHz; td(off) (typ): 215 ns; td(on) (typ): 12 ns; tf (typ): 38 ns; tr (typ): 8 ns; VCE (max): 600 V; VCE(sat) (typ): 1.5 V; VF (typ): 1.6 V; DatasheetVersion: Rev. 2.3; PackageVersion: Jul-12; PackageReference: PG-TO220-3-1; PackageDescription: 3-Pin Plastic (Green) Transistor Single Outline Package, 10 x 9.25 mm Body, 2.54 mm Pitch; Supplier 1: Mouser; Supplier Part Number 1: 726-IKP10N60T; Supplier 2: Newark; Supplier Part Number 2: 61M6727; Supplier 3: Farnell; Supplier Part Number 3: 1471741; Supplier 4: Digi-Key; Supplier Part Number 4: IKP10N60T-ND; Halogen-free: TRUE; IF (max): 20 A; IFpuls (max): 30 A; Irrm (typ): 10 A; Packing: Tube; Mounting Technology: Through Hole; ComponentLink1Description: Manufacturer URL; ComponentLink1URL: http://www.infineon.com/; ComponentLink2Description: Datasheet; ComponentLink2URL: http://www.infineon.com/dgdl/IKP10N60T+Rev2_3G%5B1%5D.pdf?folderId=db3a3043156fd5730115f56849b61941&fileId=db3a304323b87bc20123bceea1b13587; ComponentLink3Description: Package Specification; ComponentLink3URL: http://www.infineon.com/dgdl/BTS117_DS_14.pdf?folderId=db3a30431400ef68011421b54e2e0564&fileId=db3a30433a747525013abff8302d549c&location=en.Products.Automotive_ICs.Smart_High-_and_Low-Side_Switches.HITFET___TEMPFET__-_Smart_Low-Side_Switches.DATASHEET.BTS117_DS_14.pdf
footprint INF-PG-TO220-3-1 (FM, 3-Leads, Body 10x4.4mm, Pitch 2.54mm)
pins: 1 G, 2 C, 3 E

## IKP15N60T
designator Q?
600 V IGBT in TrenchStop and Fieldstop Technology with Soft, Fast Recovery Anti-Parallel EmCon HE Diode, 30 A IC, -40 to 175 degC , PG-TO220-3-1, Tube, Green; Manufacturer: Infineon; PartNumber: IKP15N60T; Eoff (typ): 0.35 mJ; Eon (typ): 0.22 mJ; Green: TRUE; Group: IGBT with Anti-Parallel Diode; IC(max) @ 100degrees: 15 A; IC(max) @ 25degrees: 30 A; ICpuls (max): 45 A; Irrm (typ): 10.4 A; Ptot (max): 130 W; QGate (typ): 87 nC; Qrr (typ): 0.24 uC; Switching Frequency: TRENCHSTOP 2-20kHz; td(off) (typ): 188 ns; td(on) (typ): 17 ns; tf (typ): 50 ns; tr (typ): 11 ns; VCE (max): 600 V; VCE(sat) (typ): 1.5 V; VF (typ): 1.65 V; DatasheetVersion: Rev. 2.2; PackageVersion: Jul-12; PackageReference: PG-TO220-3-1; PackageDescription: 3-Pin Plastic (Green) Transistor Single Outline Package, 10 x 9.25 mm Body, 2.54 mm Pitch; Supplier 1: Mouser; Supplier Part Number 1: 726-IKP15N60T; Supplier 2: Newark; Supplier Part Number 2: 61M6728; Supplier 3: Farnell; Supplier Part Number 3: 1471742; Supplier 4: Digi-Key; Supplier Part Number 4: IKP15N60T-ND; Halogen-free: TRUE; IF (max): 30 A; IFpuls (max): 45 A; Packing: Tube; Mounting Technology: Through Hole; ComponentLink1Description: Manufacturer URL; ComponentLink1URL: http://www.infineon.com/; ComponentLink2Description: Datasheet; ComponentLink2URL: http://www.infineon.com/dgdl/IKP15N60T+Rev2_2G%5B1%5D.pdf?folderId=db3a3043156fd5730115f56849b61941&fileId=db3a304323b87bc20123bcf657e035a0; ComponentLink3Description: Package Specification; ComponentLink3URL: http://www.infineon.com/dgdl/BTS117_DS_14.pdf?folderId=db3a30431400ef68011421b54e2e0564&fileId=db3a30433a747525013abff8302d549c&location=en.Products.Automotive_ICs.Smart_High-_and_Low-Side_Switches.HITFET___TEMPFET__-_Smart_Low-Side_Switches.DATASHEET.BTS117_DS_14.pdf
footprint INF-PG-TO220-3-1 (FM, 3-Leads, Body 10x4.4mm, Pitch 2.54mm)
pins: 1 G, 2 C, 3 E

## IKP15N65F5
designator Q?
650 V DuoPack IGBT and Diode High Speed Switching Series Fifth Generation, 30 A IC, PG-TO220-3-123, Tube, Green; Manufacturer: Infineon; PartNumber: IKP15N65F5; Green: TRUE; Group: IGBT with Anti-Parallel Diode; IC(max)@ 100degrees: 18 A; IC(max)@ 25degrees: 30 A; ICpuls(max): 45 A; Irrm (typ): 8 A; Ptot(max): 105 W; Switching Frequency: TRENCHSTOP5 10-120 kHz; VCE(max): 650 V; VCE(sat)(typ): 1.6 V; DatasheetVersion: Rev. 1.1; PackageReference: PG-TO220-3-123; PackageDescription: 3-Pin Plastic (Green) Transistor Single Outline Package, Body 15.65 x 10 mm, Pitch 2.54 mm; Supplier 1: Newark; Supplier Part Number 1: 33X0409; Supplier 2: Farnell; Supplier Part Number 2: 2363287; Halogen-free: TRUE; Packing: Tube; Mounting Technology: Through Hole; ComponentLink1Description: Manufacturer URL; ComponentLink1URL: http://www.infineon.com/; ComponentLink2Description: Datasheet; ComponentLink2URL: http://www.infineon.com/dgdl/DS_IKP15N65F5_1_1.pdf?folderId=db3a3043156fd5730115f56849b61941&fileId=db3a30433af5291e013af9faf0765e3f&location=en.Products.IGBTs.IGBT_with_Anti-Parallel_Diode.TRENCHSTOP_5.DATASHEET.DS_IKP15N65F5_1_1.pdf; ComponentLink3Description: Package Specification; ComponentLink3URL: http://www.infineon.com/cms/packages/Leaded_and_through-hole/P-PG-TO220/P-PG-TO220-3-123.html?__locale=en
footprint INF-PG-TO220-3-123_V (FM, 3-Leads, Body 10x9.25mm, Pitch 2.54mm, Recommended)
pins: 1 G, 2 C, 3 E